# Altium footprint library SOIC-8-W_401.14-4.PcbLib: 1 footprints
Each footprint in its own frame and in the unit in brackets; x right, y up, seen from the top. Pads: shape width x height; smd on the part's side, far side on the other; paste and mask are expansions set on the pad; w line width, h text height; cw(c..) or ccw(c..) is an arc to the next point about the centre after c.
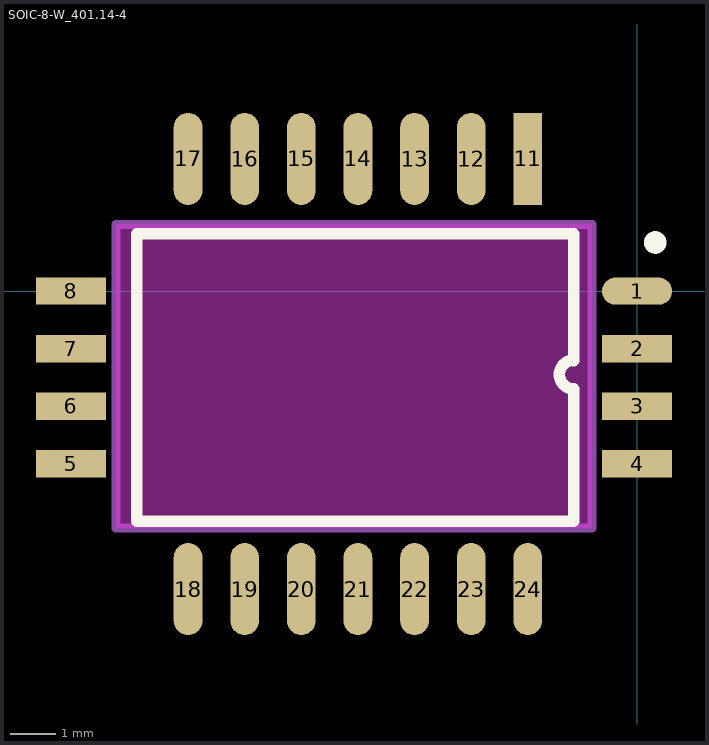
[diagram p0: the footprint, top view; thin cyan lines are the x and y axes]

## SOIC-8-W_401.14-4 [mil]
pads (22):
  oval 61.02x23.62 smd: 1(0,0)
  rect 61.02x23.62 smd: 2(0,-50) 3(0,-100) 4(0,-150) 5(-492.13,-150) 6(-492.13,-100) 7(-492.13,-50) 8(-492.13,0)
  rect 25x80 smd: 11(-95,115)
  oval 25x80 smd: 12(-144.21,115) 13(-193.43,115) 14(-242.64,115) 15(-291.85,115) 16(-341.06,115) 17(-390.28,115) 18(-390.28,-259.02) 19(-341.06,-259.02) 20(-291.85,-259.02) 21(-242.64,-259.02) 22(-193.43,-259.02) 23(-144.21,-259.02) 24(-95,-259.02)
Top Overlay:
  circle w9.84: c15.75,42.32 r4.92
  lines w10: -55,-85.5 -55,-200 -435,-200 -435,50 -55,50 -55,-60.5 ; -55,-85 cw(c-55,-72.5) -55,-60
Keep-Out Layer:
  board cut-out: -452.76,58.07 -39.37,58.07 -39.37,-205.71 -452.76,-205.71
Mechanical 1:
  lines w7.87: -452.76,-205.71 -452.76,58.07 -39.37,58.07 -39.37,-205.71 -452.76,-205.71
3D body "401_14-5.step": height 55.12, standoff 0, extent -439.48,-267.39 -45.78,122.38
3D body "Wide SOIC-8.step": height 4, standoff -106.24, extent -472.44,-193.11 -19.68,43.11